# Altium footprint library STMicroelectronics.PcbLib: 5 footprints
Each footprint in its own frame and in the unit in brackets; x right, y up, seen from the top. Pads: shape width x height; smd on the part's side, far side on the other; paste and mask are expansions set on the pad; w line width, h text height; cw(c..) or ccw(c..) is an arc to the next point about the centre after c.
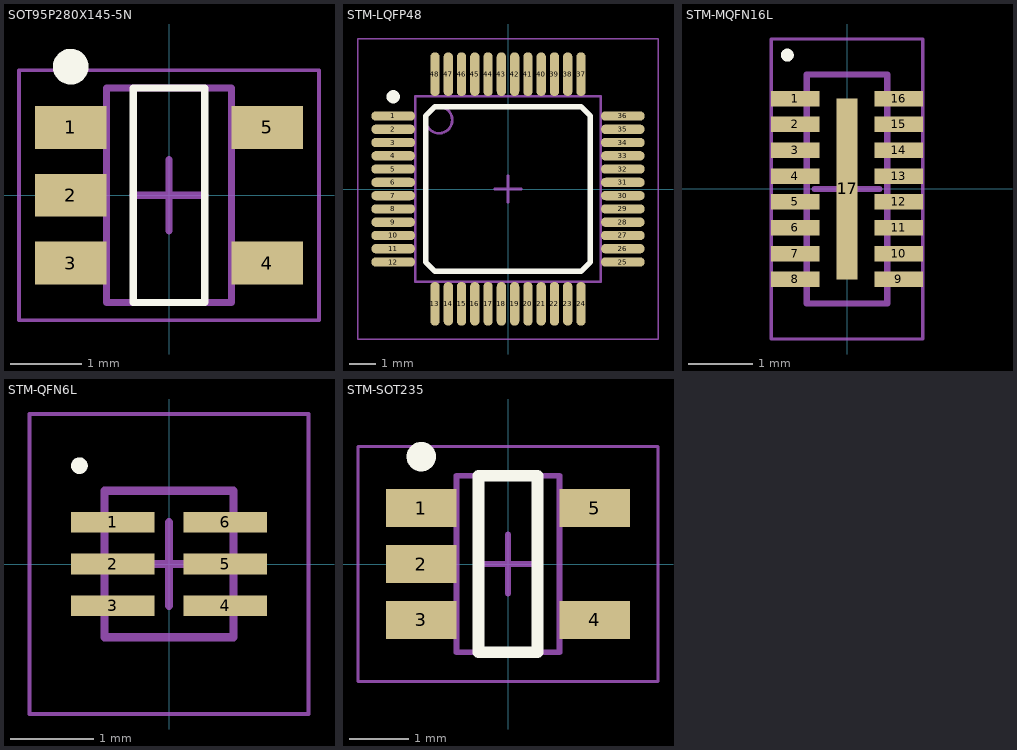
[diagram p0: the footprints below, top view; thin cyan lines are the x and y axes]

## SOT95P280X145-5N [mm] "SOT23, 5-Leads, Body 2.90x2.80mm, Pitch 0.95mm, IPC Medium Density"
height 1.45
pads (5):
  rect 1x0.6 smd: 1(-1.375,0.95) 2(-1.375,0) 3(-1.375,-0.95) 4(1.375,-0.95) 5(1.375,0.95)
Top Overlay:
  circle w0.25: c-1.375,1.8 r0.125
  lines w0.1: -0.5,-1.5 0.5,-1.5 0.5,1.5 -0.5,1.5 -0.5,-1.5
Mechanical 13:
  lines w0.1: -0.875,-1.5 -0.875,1.5 0.875,1.5 0.875,-1.5 -0.875,-1.5
  text "'.Designator'" at -2.54,2.286 h0.7
Mechanical 15:
  lines w0.05: -2.1,-1.75 -2.1,1.75 2.1,1.75 2.1,-1.75 -2.1,-1.75
  lines w0.1: -0.5,0 0.5,0 ; 0,-0.5 0,0.5
3D body: height 1.45, standoff 0.15, extent -0.875,-1.5 0.875,1.5

## STM-LQFP48 [mm] "CQFP, 48-Leads, Body 9.00x9.00mm, Pitch 0.50mm, IPC Low Density"
height 1.6
pads (48):
  oval 1.65x0.35 smd: 1(-4.325,2.75) 2(-4.325,2.25) 3(-4.325,1.75) 4(-4.325,1.25) 5(-4.325,0.75) 6(-4.325,0.25) 7(-4.325,-0.25) 8(-4.325,-0.75) 9(-4.325,-1.25) 10(-4.325,-1.75) 11(-4.325,-2.25) 12(-4.325,-2.75) 25(4.325,-2.75) 26(4.325,-2.25) 27(4.325,-1.75) 28(4.325,-1.25) 29(4.325,-0.75) 30(4.325,-0.25) 31(4.325,0.25) 32(4.325,0.75) 33(4.325,1.25) 34(4.325,1.75) 35(4.325,2.25) 36(4.325,2.75)
  oval 0.35x1.65 smd: 13(-2.75,-4.325) 14(-2.25,-4.325) 15(-1.75,-4.325) 16(-1.25,-4.325) 17(-0.75,-4.325) 18(-0.25,-4.325) 19(0.25,-4.325) 20(0.75,-4.325) 21(1.25,-4.325) 22(1.75,-4.325) 23(2.25,-4.325) 24(2.75,-4.325) 37(2.75,4.325) 38(2.25,4.325) 39(1.75,4.325) 40(1.25,4.325) 41(0.75,4.325) 42(0.25,4.325) 43(-0.25,4.325) 44(-0.75,4.325) 45(-1.25,4.325) 46(-1.75,4.325) 47(-2.25,4.325) 48(-2.75,4.325)
Top Overlay:
  circle w0.25: c-4.325,3.475 r0.125
  lines w0.2: -3.1,-2.75 -2.75,-3.1 2.75,-3.1 3.1,-2.75 3.1,2.75 2.75,3.1 -2.75,3.1 -3.1,2.75 -3.1,-2.75
Top Assembly:
  circle w0.1: c-2.6,2.6 r0.5
  lines w0.1: -3.5,-3.5 3.5,-3.5 3.5,3.5 -3.5,3.5 -3.5,-3.5
Top Courtyard:
  lines w0.05: -5.65,-5.65 5.65,-5.65 5.65,5.65 -5.65,5.65 -5.65,-5.65
  lines w0.1: -0.5,0 0.5,0 ; 0,-0.5 0,0.5
3D body "STM-LQFP48.step": height 1.55, standoff 0, extent -4.6,-4.6 4.6,4.6

## STM-MQFN16L [mm] "PQFN, 16-Leads, Body 1.20x3.50mm, Pitch 0.40mm, Thermal Pad 0.33x2.80mm, IPC Low Density"
height 0.55
pads (17):
  rect 0.75x0.24 smd: 1(-0.8,1.4) 2(-0.8,1) 3(-0.8,0.6) 4(-0.8,0.2) 5(-0.8,-0.2) 6(-0.8,-0.6) 7(-0.8,-1) 8(-0.8,-1.4) 9(0.8,-1.4) 10(0.8,-1) 11(0.8,-0.6) 12(0.8,-0.2) 13(0.8,0.2) 14(0.8,0.6) 15(0.8,1) 16(0.8,1.4)
  rect 0.33x2.8 smd: 17(0,0)
Top Overlay:
  circle w0.1: c-0.925,2.075 r0.05
Top Assembly:
  lines w0.1: -0.625,-1.775 -0.625,1.775 0.625,1.775 0.625,-1.775 -0.625,-1.775
Top Courtyard:
  lines w0.05: -1.175,-2.325 -1.175,2.325 1.175,2.325 1.175,-2.325 -1.175,-2.325
  lines w0.1: -0.5,0 0.5,0 ; 0,-0.5 0,0.5
3D body "STM-MQFN16L.step": height 0.55, standoff 0, extent -0.625,-1.775 0.625,1.775

## STM-QFN6L [mm] "QFN, 6-Leads, Body 1.50x1.70mm, Pitch 0.50mm, IPC Low Density"
height 0.55
pads (6):
  rect 1x0.25 smd: 1(-0.675,0.5) 2(-0.675,0) 3(-0.675,-0.5) 4(0.675,-0.5) 5(0.675,0) 6(0.675,0.5)
Top Overlay:
  circle w0.1: c-1.075,1.18 r0.05
Top Assembly:
  lines w0.1: -0.775,-0.88 0.775,-0.88 0.775,0.88 -0.775,0.88 -0.775,-0.88
Top Courtyard:
  lines w0.05: -1.675,-1.8 1.675,-1.8 1.675,1.8 -1.675,1.8 -1.675,-1.8
  lines w0.1: -0.5,0 0.5,0 ; 0,-0.5 0,0.5
3D body "STM-QFN6L.step": height 0.55, standoff 0, extent -0.775,-0.88 0.775,0.88

## STM-SOT235 [mm] "SOT23, 5-Leads, Body 2.90x2.80mm, Pitch 0.95mm, IPC Low Density"
height 1.45
pads (5):
  rect 1.2x0.65 smd: 1(-1.475,0.95) 2(-1.475,0) 3(-1.475,-0.95) 4(1.475,-0.95) 5(1.475,0.95)
Top Overlay:
  circle w0.25: c-1.475,1.825 r0.125
  lines w0.2: -0.5,-1.5 -0.5,1.5 0.5,1.5 0.5,-1.5 -0.5,-1.5
Top Assembly:
  lines w0.1: -0.875,-1.5 -0.875,1.5 0.875,1.5 0.875,-1.5 -0.875,-1.5
Top Courtyard:
  lines w0.05: -2.55,-2 -2.55,2 2.55,2 2.55,-2 -2.55,-2
  lines w0.1: -0.5,0 0.5,0 ; 0,-0.5 0,0.5
3D body "STM-SOT235.step": height 1.45, standoff 0, extent -1.6,-1.5 1.6,1.5